# Altium schematic symbol library M20-7820946.SchLib: 1 symbol
Pins are listed as number, name and electrical type; pins without a type are passive.

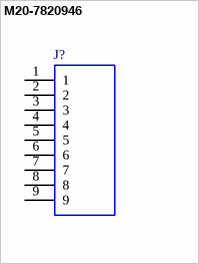
[diagram p0: symbol M20-7820946]

## M20-7820946
designator J?
Headers & Wire Housings 9 PIN SIL VERTICAL SOCKET TIN; Manufacturer_Name: Harwin; Geometry.Height: 8.65mm; Mouser Part Number: 855-M20-7820946; Mouser Price/Stock: https://www.mouser.co.uk/ProductDetail/Harwin/M20-7820946?qs=vF78I%252BjhbY9ojjezFz0qqQ%3D%3D; Manufacturer_Part_Number: M20-7820946; Datasheet Link: https://cdn.harwin.com/pdfs/M20-782.pdf
footprint RHDR9W70P0X254_1X9_2326X250X865P
pins: 1, 2, 3, 4, 5, 6, 7, 8, 9